# Altium schematic symbol library LM2596T-5.0.SchLib: 2 symbols
Pins are listed as number, name and electrical type; pins without a type are passive.

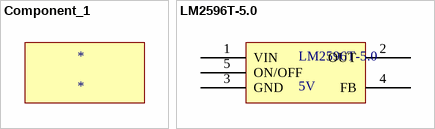
[diagram p0: symbols Component_1 to LM2596T-5.0]

## Component_1
designator *

## LM2596T-5.0
designator LM2596T-5.0, comment 5V
footprint LM2596T-5.0 (5V)
pins: 1 VIN, 2 OUT, 3 GND, 4 FB, 5 ON/OFF